# Altium footprint library Protel 99SE BANKS PCB.PCBLIB: 278 footprints (part 12 of 18)
Each footprint in its own frame and in the unit in brackets; x right, y up, seen from the top. Pads: shape width x height; smd on the part's side, far side on the other; paste and mask are expansions set on the pad; w line width, h text height; cw(c..) or ccw(c..) is an arc to the next point about the centre after c.
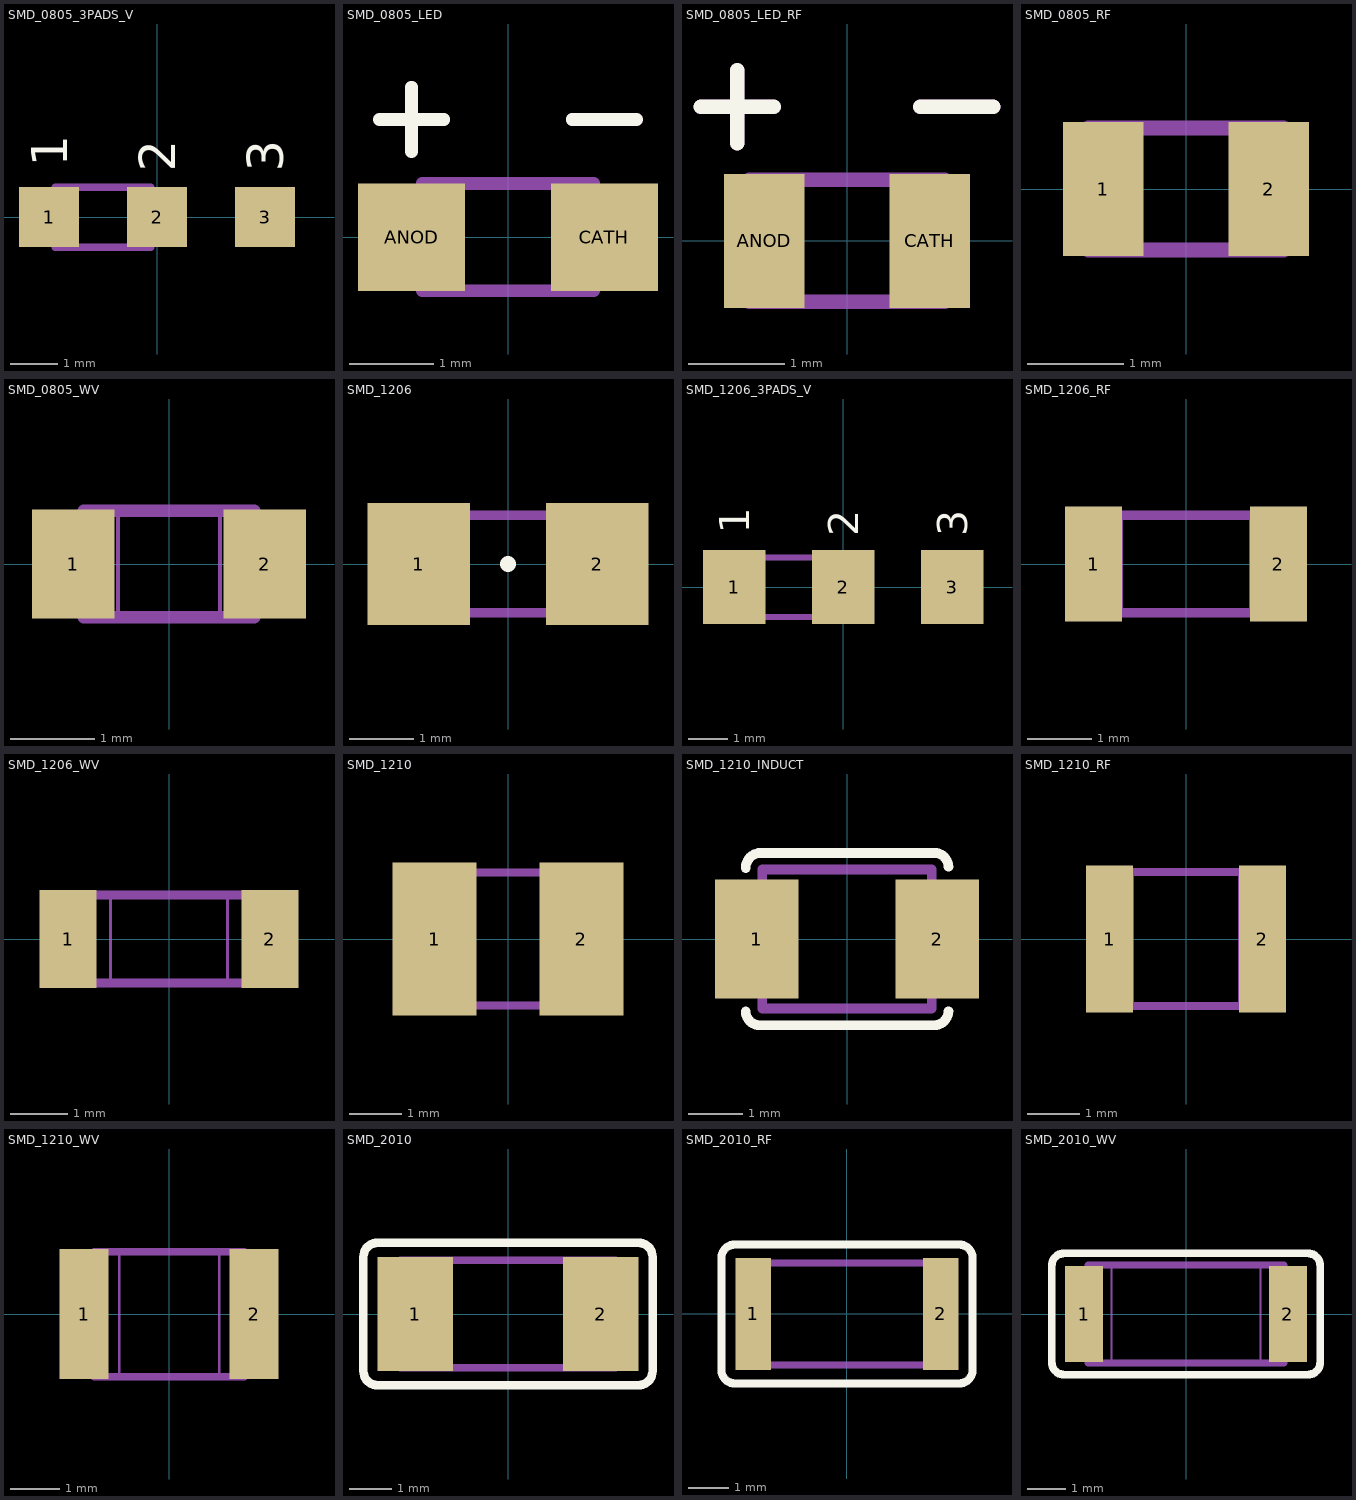
[diagram p11: the footprints below, top view; thin cyan lines are the x and y axes]

## SMD_0805_3PADS_V [mil]
pads (3):
  rect 50x50 smd: 1(-90,0) 2(0,0) 3(90,0)
TopOverlay:
  text "1" at -75,42 h30
  text "2" at 15,38 h30
  text "3" at 105,38 h30
Mechanical3:
  lines w2: -69,-25 -69,25 ; -21,-25 -21,25
  lines w6: -85,-25 -85,25 -5,25 -5,-25 -85,-25

## SMD_0805_LED [mil]
pads (2):
  rect 50x50 smd: ANOD(-45,0) CATH(45,0)
TopOverlay:
  lines w6: -60,55 -30,55 ; -45,40 -45,70 ; 30,55 60,55
Mechanical3:
  lines w2: -24,-25 -24,25 ; 24,-25 24,25
  lines w6: -60,55 -30,55 ; -45,40 -45,70 ; 30,55 60,55 ; -40,-25 40,-25 40,25 -40,25 -40,-25

## SMD_0805_LED_RF [mil]
pads (2):
  rect 33x55 smd: ANOD(-34,0) CATH(34,0)
TopOverlay:
  lines w6: -60,55 -30,55 ; -45,40 -45,70 ; 30,55 60,55
Mechanical3:
  lines w2: -24,-25 -24,25 ; 24,-25 24,25
  lines w6: -60,55 -30,55 ; -45,40 -45,70 ; 30,55 60,55 ; -40,-25 40,-25 40,25 -40,25 -40,-25

## SMD_0805_RF [mil]
pads (2):
  rect 33x55 smd: 1(-34,0) 2(34,0)
Mechanical3:
  lines w2: -24,-25 -24,25 ; 24,-25 24,25
  lines w6: -40,-25 -40,25 40,25 40,-25 -40,-25

## SMD_0805_WV [mil]
pads (2):
  rect 39x51 smd: 1(-45,0) 2(45,0)
Mechanical3:
  lines w2: -24,-25 -24,25 ; 24,-25 24,25
  lines w6: -40,-25 40,-25 40,25 -40,25 -40,-25

## SMD_1206 [mil]
pads (2):
  rect 63x75 smd: 1(-55,0) 2(55,0)
TopOverlay:
  circle w10: c0,0 r0
Mechanical3:
  lines w2: -40,-30 -40,30 ; 40,-30 40,30
  lines w6: -60,-30 -60,30 60,30 60,-30 -60,-30

## SMD_1206_3PADS_V [mil]
pads (3):
  rect 63x75 smd: 1(-110,0) 2(0,0) 3(110,0)
TopOverlay:
  text "3" at 125,51 h30
  text "2" at 15,51 h30
  text "1" at -95,54 h30
Mechanical3:
  lines w2: -95,-30 -95,30 ; -15,-30 -15,30
  lines w6: -115,-30 5,-30 5,30 -115,30 -115,-30

## SMD_1206_RF [mil]
pads (2):
  rect 35x71 smd: 1(-57,0) 2(57,0)
Mechanical3:
  lines w2: -40,-30 -40,30 ; 40,-30 40,30
  lines w6: -60,-30 60,-30 60,30 -60,30 -60,-30

## SMD_1206_WV [mil]
pads (2):
  rect 39x67 smd: 1(-69,0) 2(69,0)
Mechanical3:
  lines w2: -40,-30 -40,30 ; 40,-30 40,30
  lines w6: -60,-30 60,-30 60,30 -60,30 -60,-30

## SMD_1210 [mil]
pads (2):
  rect 63x115 smd: 1(-55,0) 2(55,0)
Mechanical3:
  lines w2: -40,-50 -40,50 ; 40,-50 40,50
  lines w6: -60,-50 -60,50 60,50 60,-50 -60,-50

## SMD_1210_INDUCT [mil]
pads (2):
  rect 60x86 smd: 1(-65,0) 2(65,0)
TopOverlay:
  lines w7: -73,-52 ccw(c-63,-52) -63,-62 63,-62 ccw(c63,-52) 73,-52 ; -73,51 cw(c-62,51) -62,62 63,62 cw(c63,52) 73,52
Mechanical3:
  lines w4: -61,-37 -66,-37 -66,37 -61,37 ; 61,-37 66,-37 66,37 61,37
  lines w7: -61,-50 -61,50 61,50 61,-50 -61,-50

## SMD_1210_RF [mil]
pads (2):
  rect 35x110 smd: 1(-57,0) 2(57,0)
Mechanical3:
  lines w2: -40,-50 -40,50 ; 40,-50 40,50
  lines w6: -60,-50 60,-50 60,50 -60,50 -60,-50

## SMD_1210_WV [mil]
pads (2):
  rect 39x104 smd: 1(-68,0) 2(68,0)
Mechanical3:
  lines w2: -40,-50 -40,50 ; 40,-50 40,50
  lines w6: -60,-50 60,-50 60,50 -60,50 -60,-50

## SMD_2010 [mil]
pads (2):
  rect 70x106 smd: 1(-86,0) 2(86,0)
TopOverlay:
  lines w8: -134,-53 ccw(c-121,-53) -121,-66 121,-66 ccw(c121,-53) 134,-53 134,53 ccw(c121,53) 121,66 -121,66 ccw(c-121,53) -134,53 -134,-53
Mechanical3:
  lines w2: -76,-50 -76,50 ; 76,-50 76,50
  lines w7: -100,-50 100,-50 100,50 -100,50 -100,-50

## SMD_2010_RF [mil]
pads (2):
  rect 35x110 smd: 1(-92,0) 2(92,0)
TopOverlay:
  lines w8: -123,-55 ccw(c-110,-55) -110,-68 110,-68 ccw(c110,-55) 123,-55 123,55 ccw(c110,55) 110,68 -110,68 ccw(c-110,55) -123,55 -123,-55
Mechanical3:
  lines w2: -76,-50 -76,50 ; 76,-50 76,50
  lines w7: -100,-50 -100,50 100,50 100,-50 -100,-50

## SMD_2010_WV [mil]
pads (2):
  rect 39x98 smd: 1(-104,0) 2(104,0)
TopOverlay:
  lines w8: -137,-49 ccw(c-124,-49) -124,-62 124,-62 ccw(c124,-49) 137,-49 137,49 ccw(c124,49) 124,62 -124,62 ccw(c-124,49) -137,49 -137,-49
Mechanical3:
  lines w2: -76,-50 -76,50 ; 76,-50 76,50
  lines w7: -100,-50 100,-50 100,50 -100,50 -100,-50